# EAGLE library part DS1307 (library dallas)
I2C Serial RTC w/56 bytes battery backed RAM
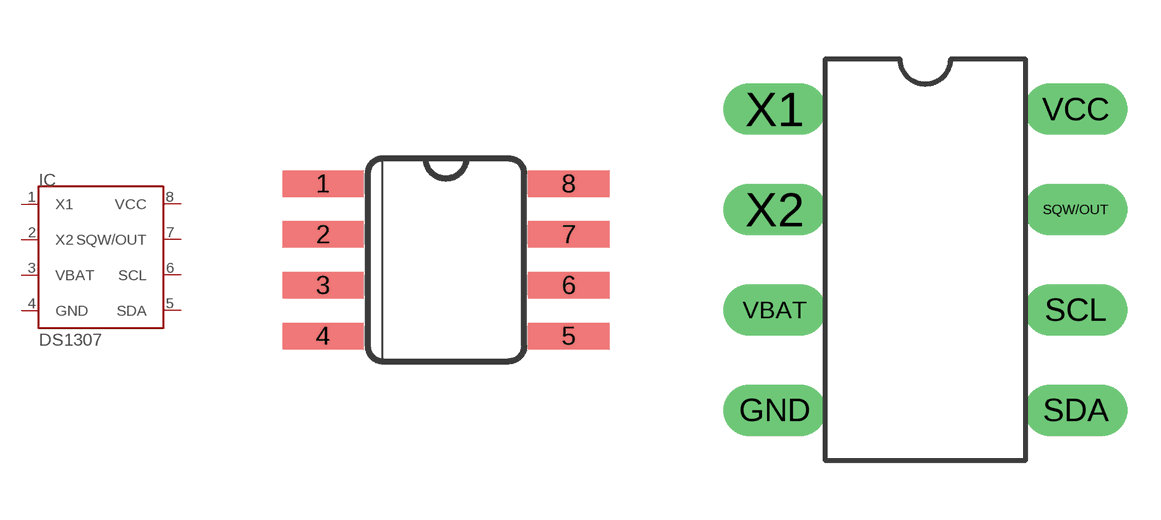
[diagram p0: symbol with the pads of SOIC-8; footprints SOIC-8, P-DIP]

Designator prefix IC

## DS1307  [SOIC-8]
1  X1  in
2  X2  out
3  VBAT  pwr
4  GND  pwr
5  SDA
6  SCL  in
7  SQW/OUT  out
8  VCC  pwr

## DS1307P-DIP  [P-DIP]
GND  GND  pwr
SCL  SCL  in
SDA  SDA
SQW/OUT  SQW/OUT  out
VBAT  VBAT  pwr
VCC  VCC  pwr
X1  X1  in
X2  X2  out

## Footprint SOIC-8 (pad centres in mm)
smd 2.032 x 0.66: 1 -3.073,1.27; 2 -3.073,0; 3 -3.073,-1.27; 4 -3.073,-2.54; 5 3.073,-2.54; 6 3.073,-1.27; 7 3.073,0; 8 3.073,1.27

## Footprint P-DIP (pad centres in mm)
drill 0.8 long: GND -3.81,-3.81; SCL 3.81,-1.27; SDA 3.81,-3.81; SQW/OUT 3.81,1.27; VBAT -3.81,-1.27; VCC 3.81,3.81; X1 -3.81,3.81; X2 -3.81,1.27